# Altium integrated library Linear Technology PMIC-Switching Reg LTC1174-LTC3901.IntLib: 2647 symbols (part 208 of 310)
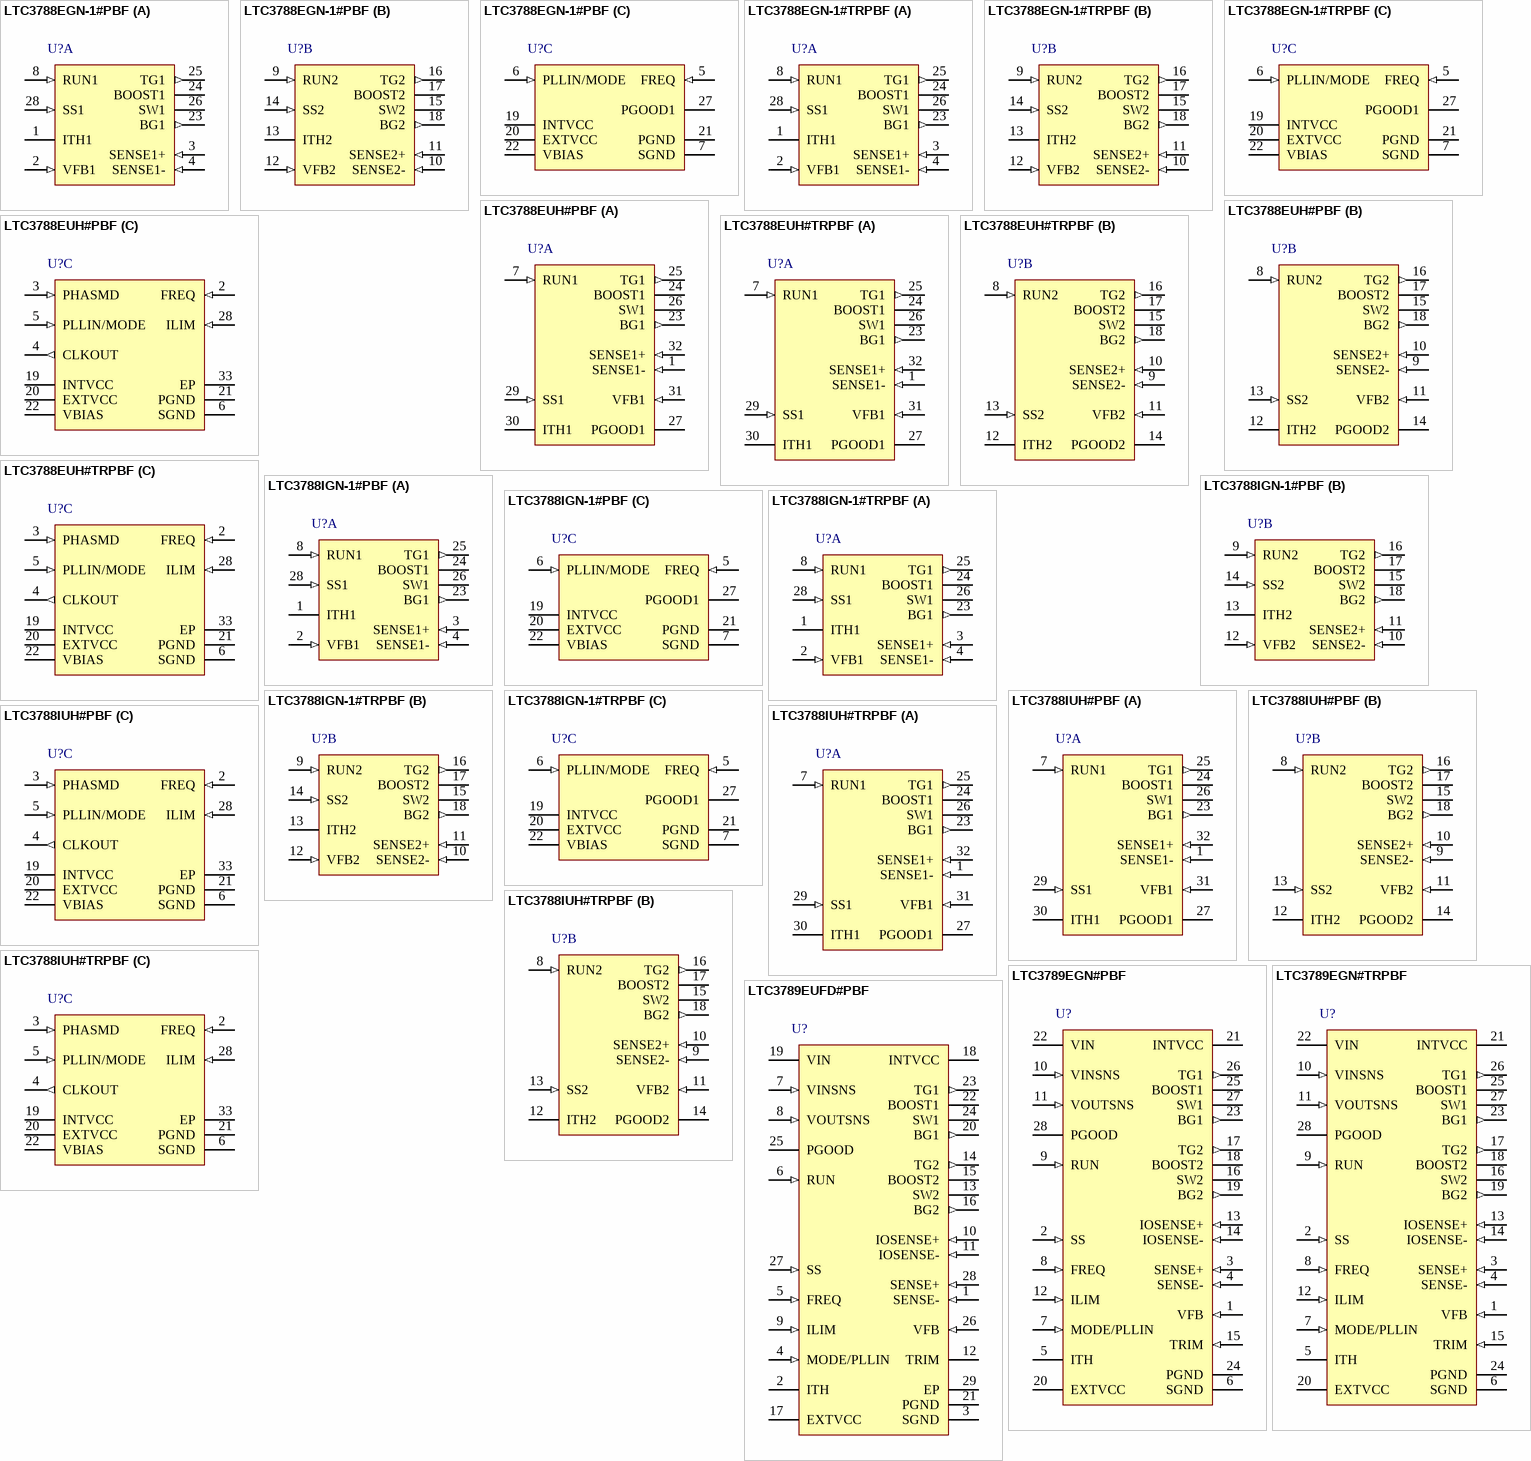
[diagram p337: symbols LTC3788EGN-1#PBF to LTC3789EUFD#PBF]

## LTC3788EGN-1#TRPBF
designator U?
2-Phase, Dual Output Synchronous Boost Controller, 28-pin SOP (GN-28), -40 to 125 degC, Pb-Free, Tape and Reel; Manufacturer: Linear Technology; PartNumber: LTC3788EGN-1#TRPBF; Number of Outputs: 2; PackageReference: GN-28; PackageDescription: 28-Pin Plastic SSOP, Body 9.9 x 3.9 mm, Pitch 0.635 mm; Supplier 1: Digi-Key; Supplier Part Number 1: LTC3788EGN-1#TRPBF-ND; RoHS: TRUE
footprint LT-GN-28_N (SOP, 28-Leads, Body 9.98x3.98mm, Pitch 0.635mm, IPC Medium Density)
footprint LT-GN-28_L (SOP, 28-Leads, Body 9.98x3.98mm, Pitch 0.635mm, IPC High Density)
footprint LT-GN-28_M (SOP, 28-Leads, Body 9.98x3.98mm, Pitch 0.635mm, IPC Low Density)
part A pins: 1 ITH1 "Current Control Threshold and Error Amplifier Compensation Point. The voltage on this pin sets the current trip threshold.", 2 VFB1 (in) "Error Amplifier Feedback Input. This pin receives the remotely sensed feedback voltage from an external resistive divider connected across the output.", 3 SENSE1+ (in) "Positive Current Sense Comparator Input. The (+) input to the current comparator is normally connected to the positive terminal of a current sense resistor. The current sense resistor is normally placed at the input of the (See Datasheet)", 4 SENSE1- (in) "Negative Current Sense Comparator Input. The (-) input to the current comparator is normally connected to the negative terminal of a current sense resistor connected in series with the inductor. The common mode voltage range (See Datasheet)", 8 RUN1 (in) "Run Control Input. An external resistor divider connects to VIN and sets the thresholds for converter operation with a threshold of 1.28V. Once running, a 4.5uA current is sourced from the RUN pin allowing the user to (See Datasheet)", 23 BG1 (out) "Bottom Gate. Connect to the gate of the main NMOS.", 24 BOOST1 "Floating power supply for the synchronous NMOS. Bypass to SW with a capacitor and supply with a Schottky diode connected to INTVCC.", 25 TG1 (out) "Top Gate. Connect to the gate of the synchronous NMOS.", 26 SW1 "Switch Node. Connect to the source of the synchronous NMOS, the drain of the main NMOS and the inductor.", 28 SS1 (in) "Output Soft-Start Input. A capacitor to ground at this pin sets the ramp rate of the output voltage during start-up."
part B pins: 9 RUN2 (in) "Run Control Input. An external resistor divider connects to VIN and sets the thresholds for converter operation with a threshold of 1.28V. Once running, a 4.5uA current is sourced from the RUN pin allowing the user to (See Datasheet)", 10 SENSE2- (in) "Negative Current Sense Comparator Input. The (-) input to the current comparator is normally connected to the negative terminal of a current sense resistor connected in series with the inductor. The common mode voltage range (See Datasheet)", 11 SENSE2+ (in) "Positive Current Sense Comparator Input. The (+) input to the current comparator is normally connected to the positive terminal of a current sense resistor. The current sense resistor is normally placed at the input of the (See Datasheet)", 12 VFB2 (in) "Error Amplifier Feedback Input. This pin receives the remotely sensed feedback voltage from an external resistive divider connected across the output.", 13 ITH2 "Current Control Threshold and Error Amplifier Compensation Point. The voltage on this pin sets the current trip threshold.", 14 SS2 (in) "Output Soft-Start Input. A capacitor to ground at this pin sets the ramp rate of the output voltage during start-up.", 15 SW2 "Switch Node. Connect to the source of the synchronous NMOS, the drain of the main NMOS and the inductor.", 16 TG2 (out) "Top Gate. Connect to the gate of the synchronous NMOS.", 17 BOOST2 "Floating power supply for the synchronous NMOS. Bypass to SW with a capacitor and supply with a Schottky diode connected to INTVCC.", 18 BG2 (out) "Bottom Gate. Connect to the gate of the main NMOS."
part C pins: 5 FREQ (in) "The frequency control pin for the internal VCO. Connecting the pin to GND forces the VCO to a fixed low frequency of 350kHz. Connecting the pin to INTVCC forces the VCO to a fixed high frequency of 535kHz. The frequency can (See Datasheet)", 6 PLLIN/MODE (in), 7 SGND (power) "Signal Ground. All small-signal components and compensation components should connect to this ground, which in turn connects to PGND at a single point.", 19 INTVCC (power) "Output of Internal 5.4V LDO. Power supply for control circuits and gate drives. Decouple this pin to GND with a minimum 4.7uF low ESR tantalum or ceramic capacitor.", 20 EXTVCC (power) "External Power Input. When this pin is higher than 4.8V an internal switch bypasses the internal regulator and supply power to INTVCC directly from EXTVCC.", 21 PGND (power) "Driver Power Ground. Connects to the sources of bottom (main) N-channel MOSFETs and the (-) terminal(s) of CIN and COUT.", 22 VBIAS (power) "Main Supply Pin. It is normally tied to the input supply VIN or to the output of the boost converter. A bypass capacitor should be tied between this pin and the signal ground pin. The operating voltage range on this pin is 4.(See Datasheet)", 27 PGOOD1 (oc) "Power Good Indicator for Channel 1. Open-drain logic output that is pulled to ground when the output voltage is more than +/-10% away from the regulated output voltage. To avoid false trips the output voltage must be outside (See Datasheet)"